# EAGLE library part SPARKFUN_MPU9250_IMU (library AERO_Eagle_Library)
Sparkfun's 9-DOF IMU: MPU9250 https://www.sparkfun.com/products/13762
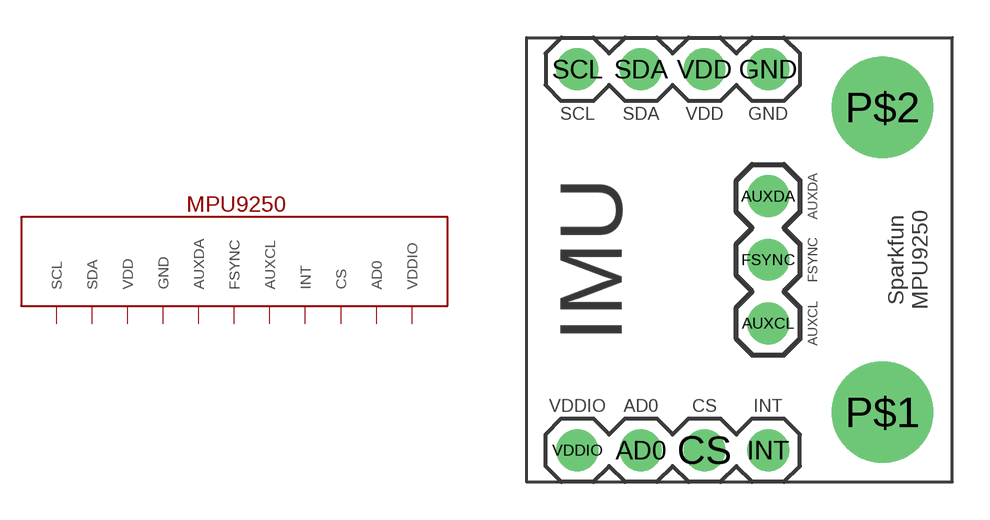
[diagram p2: symbol with the pads of SPARKFUN_MPU9250_IMU; footprint SPARKFUN_MPU9250_IMU]

Designator prefix U

## SPARKFUN_MPU9250_IMU  [SPARKFUN_MPU9250_IMU]
AD0  AD0
AUXCL  AUXCL
AUXDA  AUXDA
CS  CS
FSYNC  FSYNC
GND  GND
INT  INT
SCL  SCL
SDA  SDA
VDD  VDD
VDDIO  VDDIO

## Footprint SPARKFUN_MPU9250_IMU (pad centres in mm)
Sparkfun's 9-DOF IMU: MPU9250 https://www.sparkfun.com/products/13762
drill 1.001 pad 1.676: AD0 4.572,1.27; AUXCL 9.652,6.35; AUXDA 9.652,11.43; CS 7.112,1.27; FSYNC 9.652,8.89; GND 9.652,16.51; SCL 2.032,16.51; SDA 4.572,16.51; VDD 7.112,16.51; VDDIO 2.032,1.27
drill 1 pad 1.676: INT 9.652,1.27
drill 2.54 pad 4.064: P$1 14.224,2.794; P$2 14.224,14.986